# EAGLE library part LCD128128A (library DodoLcd)
Displaytech LCD module 128 x 128A-BC-BC 5327142
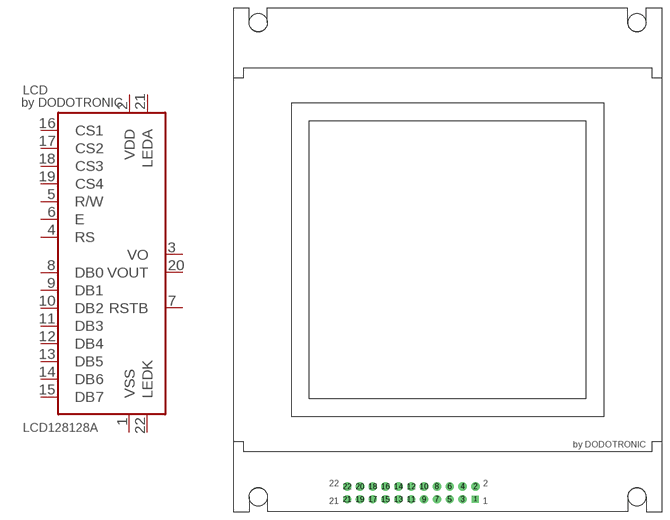
[diagram p4: symbol with the pads of LCD128128A; footprint LCD128128A]

Designator prefix LCD

## LCD128128A  [LCD128128A]
1  VSS
2  VDD
3  VO
4  RS
5  R/W
6  E
7  RSTB
8  DB0
9  DB1
10  DB2
11  DB3
12  DB4
13  DB5
14  DB6
15  DB7
16  CS1
17  CS2
18  CS3
19  CS4
20  VOUT
21  LEDA
22  LEDK

## Footprint LCD128128A (pad centres in mm)
Displaytech LCD module 128 x 128 a
drill 0.9 square: 1 48,2.5
drill 1.1 round: 2 48,5.04; 3 45.46,2.5; 4 45.46,5.04; 5 42.92,2.5; 6 42.92,5.04; 7 40.38,2.5; 8 40.38,5.04; 9 37.84,2.5; 10 37.84,5.04; 11 35.3,2.5; 12 35.3,5.04; 13 32.76,2.5; 14 32.76,5.04; 15 30.22,2.5; 16 30.22,5.04; 17 27.68,2.5; 18 27.68,5.04; 19 25.14,2.5; 20 25.14,5.04; 21 22.6,2.5; 22 22.6,5.04
hole 3.5 at 5,3
hole 3.5 at 80,3
hole 3.5 at 80,97
hole 3.5 at 5,97